# Altium schematic symbol library Magnetics.SchLib: 4 symbols
Pins are listed as number, name and electrical type; pins without a type are passive.

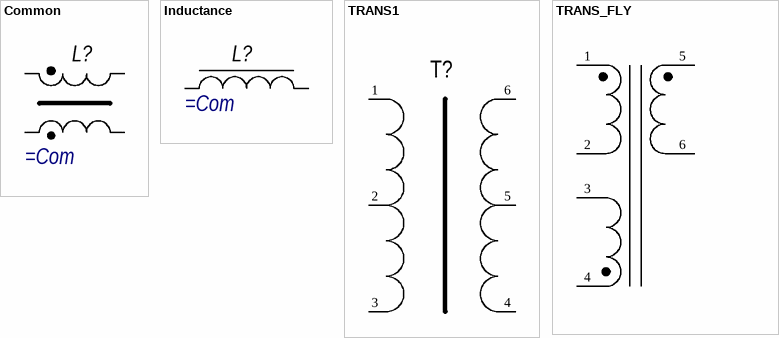
[diagram p0: symbols Common to TRANS_FLY]

## Common
designator L?
Value: *
pins: 1, 2, 3, 4

## Inductance
designator L?
Value: *
pins: 1, 2

## TRANS1
designator T?
Трансформатор; Type: Type
footprint KV5
pins: 1, 2, 3, 4, 5, 6

## TRANS_FLY
designator T?
Part: R 0805 ±1%; Cat: Резистор; Name: NULL; Power: 0,125 Вт; Tolerance: ±1%; Bill: Резистор NULL-0,125 Вт-NULL±1%; Com: R0805 0,125 Вт NULL ±1%; Package: R0805; Nominal: NULL
pins: 1, 2, 3, 4, 5, 6